# Altium footprint library Common.PcbLib: 60 footprints (part 3 of 4)
Each footprint in its own frame and in the unit in brackets; x right, y up, seen from the top. Pads: shape width x height; smd on the part's side, far side on the other; paste and mask are expansions set on the pad; w line width, h text height; cw(c..) or ccw(c..) is an arc to the next point about the centre after c.
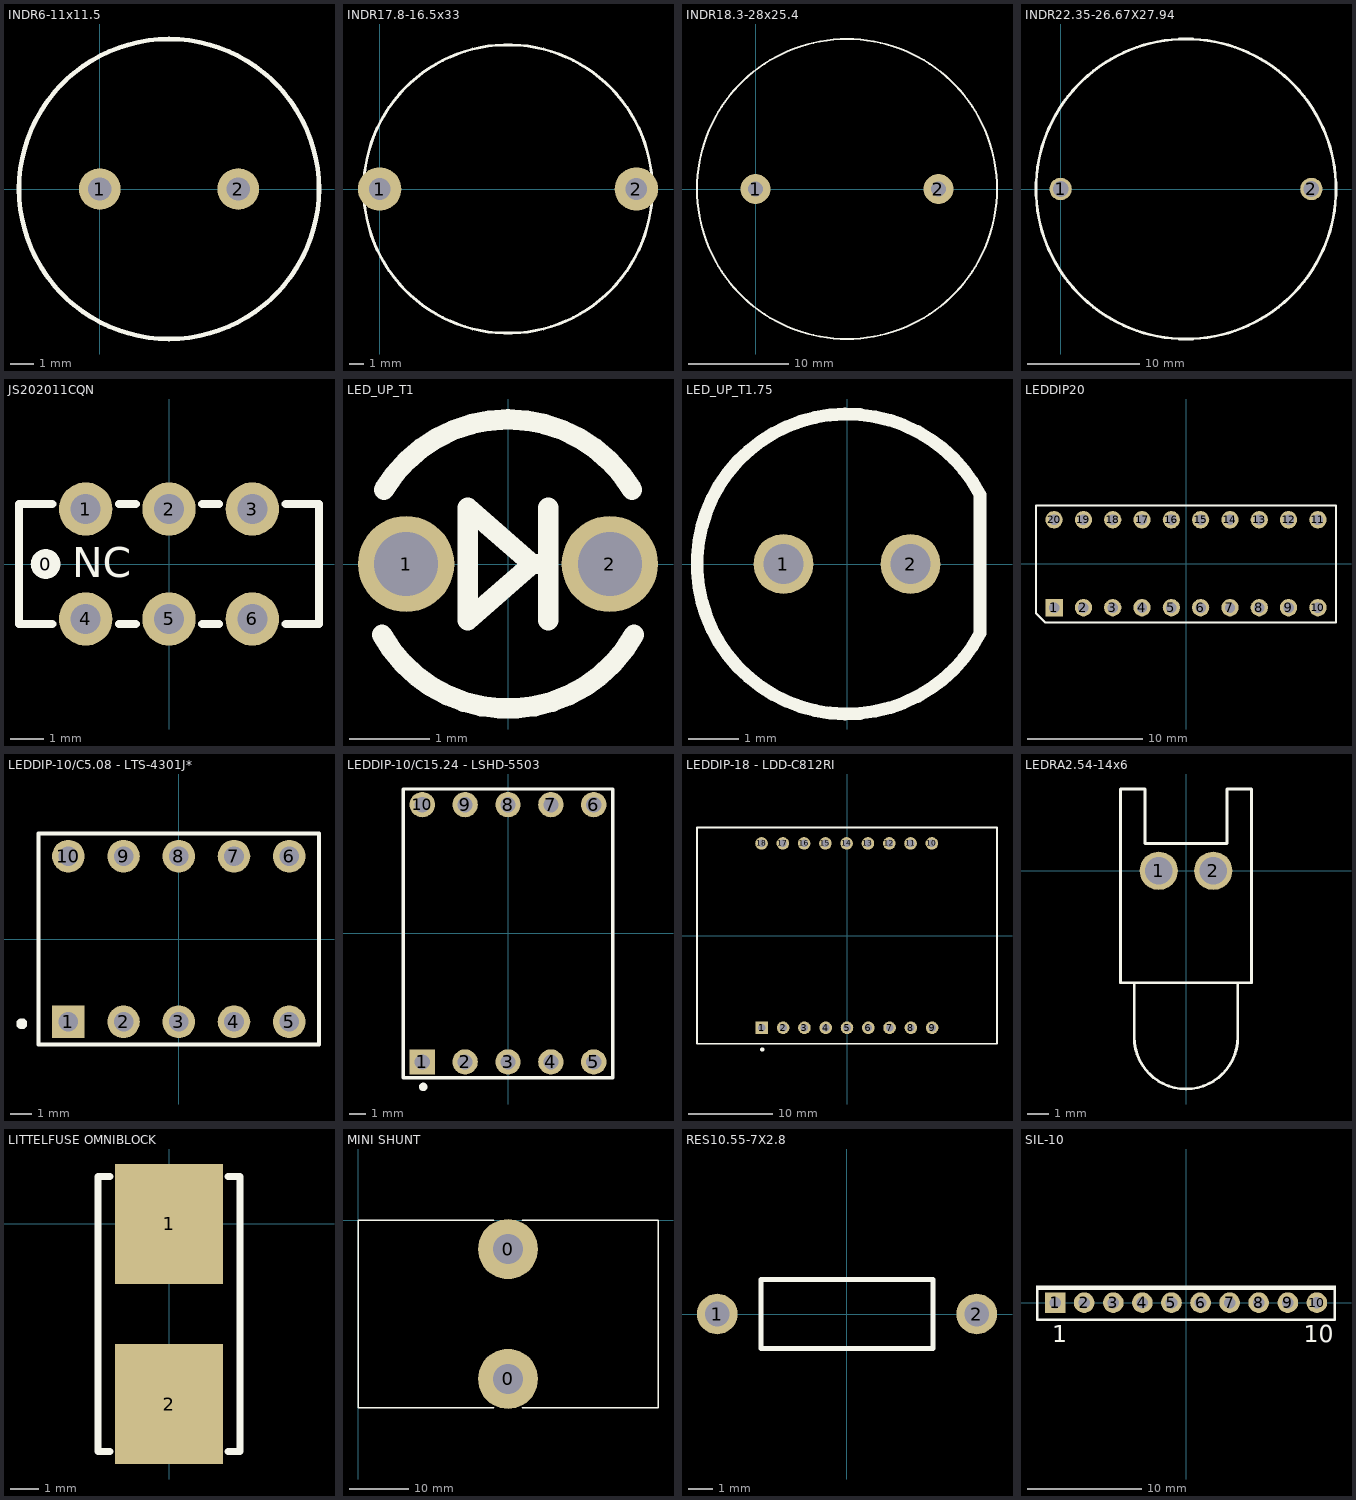
[diagram p2: the footprints below, top view; thin cyan lines are the x and y axes]

## INDR6-11x11.5 [mm]
pads (2):
  round 1.8 hole 1: 1(0,0) 2(6,0)
Top Overlay:
  circle w0.2: c3,0 r6.5

## INDR17.8-16.5x33 [mm]
pads (2):
  round 3 hole 1.5: 1(0,0) 2(17.8,0)
Top Overlay:
  circle w0.2: c8.9,0 r10

## INDR18.3-28x25.4 [mm]
pads (2):
  round 3 hole 1.5: 1(0,0) 2(18.3,0)
Top Overlay:
  circle w0.2: c9.15,0 r15

## INDR22.35-26.67X27.94 [mm]
pads (2):
  round 2 hole 1.4 unplated: 1(0,0) 2(22.4,0)
Top Overlay:
  circle w0.254: c11.2,0 r13.4

## JS202011CQN [mm] "DPDT Slide Switch 6VDC 0.3A"
pads (7):
  round 0.9 on Top Overlay: 0(-3.7,0)
  round 1.6 hole 0.9: 1(-2.5,1.65) 2(0,1.65) 3(2.5,1.65) 4(-2.5,-1.65) 5(0,-1.65) 6(2.5,-1.65)
Top Overlay:
  lines w0.254: -3.5,-1.8 -4.5,-1.8 -4.5,1.8 -3.5,1.8 ; -1.5,-1.8 -1,-1.8 ; -1.5,1.8 -1,1.8 ; 1,-1.8 1.5,-1.8 ; 1,1.8 1.5,1.8 ; 3.5,-1.8 4.5,-1.8 4.5,1.8 3.5,1.8
  text "NC" at -2.9,-0.4 h0.9

## LED_UP_T1 [mm] "LED, Upright Mount, T1 (3mm)"
pads (2):
  round 1.2 hole 0.8: 1(-1.27,0) 2(1.27,0)
Top Overlay:
  lines w0.254: -1.571,-0.884 ccw(c0,0) 1.571,-0.884 ; -1.546,0.928 cw(c0,0) 1.546,0.928 ; 0.4,0 0.3,0 ; 0.5,-0.7 0.5,0.7 ; 0.3,0 -0.5,-0.7 -0.5,0.7 0.3,0

## LED_UP_T1.75 [mm] "LED - T 1-3/4 (5mm) - Upright Mount"
pads (2):
  round 1.2 hole 0.8: 1(-1.27,0) 2(1.27,0)
Top Overlay:
  lines w0.254: 2.662,-1.384 cw(c0,0) 2.662,1.384 2.662,-1.384

## LEDDIP20 [mm] "DIP-20 with silkscreen for DIP20-based bargraph LED"
pads (20):
  rect 1.5x1.5 hole 0.9: 1(-11.43,-3.81)
  round 1.5 hole 0.9: 2(-8.89,-3.81) 3(-6.35,-3.81) 4(-3.81,-3.81) 5(-1.27,-3.81) 6(1.27,-3.81) 7(3.81,-3.81) 8(6.35,-3.81) 9(8.89,-3.81) 10(11.43,-3.81) 11(11.43,3.81) 12(8.89,3.81) 13(6.35,3.81) 14(3.81,3.81) 15(1.27,3.81) 16(-1.27,3.81) 17(-3.81,3.81) 18(-6.35,3.81) 19(-8.89,3.81) 20(-11.43,3.81)
Top Overlay:
  lines w0.2: -13,-4.3 -12.2,-5.1 13,-5.1 13,5.05 -13,5.05 -13,-4.3

## LEDDIP-10/C5.08 - LTS-4301J* [mm]
pads (10):
  rect 1.5x1.5 hole 0.9: 1(-5.08,-3.81)
  round 1.5 hole 0.9: 2(-2.54,-3.81) 3(0,-3.81) 4(2.54,-3.81) 5(5.08,-3.81) 6(5.08,3.81) 7(2.54,3.81) 8(0,3.81) 9(-2.54,3.81) 10(-5.08,3.81)
Top Overlay:
  circle w0.25: c-7.225,-3.9 r0.125
  lines w0.2: -6.452,-4.851 6.452,-4.851 6.452,4.851 -6.452,4.851 -6.452,-4.851

## LEDDIP-10/C15.24 - LSHD-5503 [mm]
pads (10):
  rect 1.5x1.5 hole 0.9: 1(-5.08,-7.62)
  round 1.5 hole 0.9: 2(-2.54,-7.62) 3(0,-7.62) 4(2.54,-7.62) 5(5.08,-7.62) 6(5.08,7.62) 7(2.54,7.62) 8(0,7.62) 9(-2.54,7.62) 10(-5.08,7.62)
Top Overlay:
  circle w0.25: c-5.025,-9.1 r0.125
  lines w0.2: -6.2,-8.55 -6.2,8.55 6.2,8.55 6.2,-8.55 -6.2,-8.55

## LEDDIP-18 - LDD-C812RI [mm]
pads (18):
  rect 1.5x1.5 hole 0.9: 1(-10.16,-11)
  round 1.5 hole 0.9: 2(-7.62,-11) 3(-5.08,-11) 4(-2.54,-11) 5(0,-11) 6(2.54,-11) 7(5.08,-11) 8(7.62,-11) 9(10.16,-11) 10(10.12,11) 11(7.58,11) 12(5.04,11) 13(2.5,11) 14(-0.04,11) 15(-2.58,11) 16(-5.12,11) 17(-7.66,11) 18(-10.2,11)
Top Overlay:
  circle w0.25: c-10.16,-11.3 r0.125
  circle w0.25: c-10.113,-13.588 r0.125
  lines w0.2: -17.9,-12.9 -17.9,12.9 17.9,12.9 17.9,-12.9 -17.9,-12.9

## LEDRA2.54-14x6 [mil]
pads (2):
  round 70 hole 50: 1(-50,0) 2(50,0)
Top Overlay:
  lines w5: -95,-205 -95,-305 ccw(c0,-305) 95,-305 95,-205 ; -120,-205 -120,150 -75,150 -75,50 75,50 75,150 120,150 120,-205 -120,-205
Mechanical 1:
  lines w0.98: -95,-305 -95,-205 ; -75,150 -120,150 -120,-205 120,-205 120,150 75,150 ; 95,-305 95,-205
  lines w1: -95,-305 ccw(c0,-305) 95,-305

## LITTELFUSE OMNIBLOCK [mm]
pads (2):
  rect 3.81x4.24 smd: 1(0,0) 2(0,-6.38)
Top Overlay:
  lines w0.254: -2.1,-8.055 -2.515,-8.055 -2.515,1.675 -2.1,1.675 ; 2.1,-8.055 2.515,-8.055 2.515,1.675 2.1,1.675

## MINI SHUNT [mm]
pads (2):
  round 10.16 hole 5.08: 0(25.4,-26.85) 0(25.4,-4.85)
Top Overlay:
  lines w0.254: 23,-31.7 0,-31.7 0,0 23,0 ; 27.8,-31.7 50.8,-31.7 50.8,0 27.8,0

## RES10.55-7X2.8 [mm]
pads (2):
  round 1.65 hole 1: 1(-5.275,0) 2(5.275,0)
Top Overlay:
  lines w0.2: -3.5,-1.4 -3.5,1.4 3.5,1.4 3.5,-1.4 -3.5,-1.4

## SIL-10 [mm]
pads (10):
  rect 1.8x1.8 hole 1.02: 1(-11.43,0)
  round 1.8 hole 1.02: 2(-8.89,0) 3(-6.35,0) 4(-3.81,0) 5(-1.27,0) 6(1.27,0) 7(3.81,0) 8(6.35,0) 9(8.89,0) 10(11.43,0)
Top Overlay:
  rectangle: -13.1,1.1 13.1,1.5
  lines w0.2: -13,1.4 -13,-1.5 13,-1.5 13,1.4
  text "10" at 10.305,-3.475 h1.5
  text "1" at -11.68,-3.475 h1.5